# EAGLE library part NCL30160 (library dword1511-pmic-dcdc)
Buck LED driver
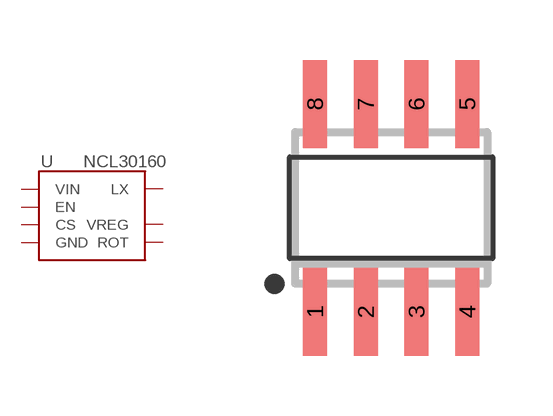
[diagram p1: symbol with the pads of SOIC-8; footprint SOIC-8]

Designator prefix U

## NCL30160  [SOIC-8]
1  CS  out
2  CS  out
3  GND  pwr
4  VREG  out
5  ROT  out
6  EN  in
7  VIN  pwr
8  LX  out

## Footprint SOIC-8 (pad centres in mm)
smd 0.6 x 2.2: 1 -1.905,-2.6; 2 -0.635,-2.6; 3 0.635,-2.6; 4 1.905,-2.6; 5 1.905,2.6; 6 0.635,2.6; 7 -0.635,2.6; 8 -1.905,2.6